# EAGLE library part HCNR200 (library HCNR200)
AVAGO TECHNOLOGIES - HCNR200 The HCNR200/201high?linearity analog optocoupler consists of a high?performance AlGaAs LED that illuminates two closely matched photodiodes. The input photodiode can be used to monitor, and therefore stabilize, the light output of the LED. As a result, the non?linearity and drift characteristics of the LED can be virtually eliminated. The output photodiode produces a photocurrent that is linearly related to the light output of the LED. The close matching of the photo?diodes and advanced design of the package ensure the high linearity and stable gain characteristics of the optocoupler.
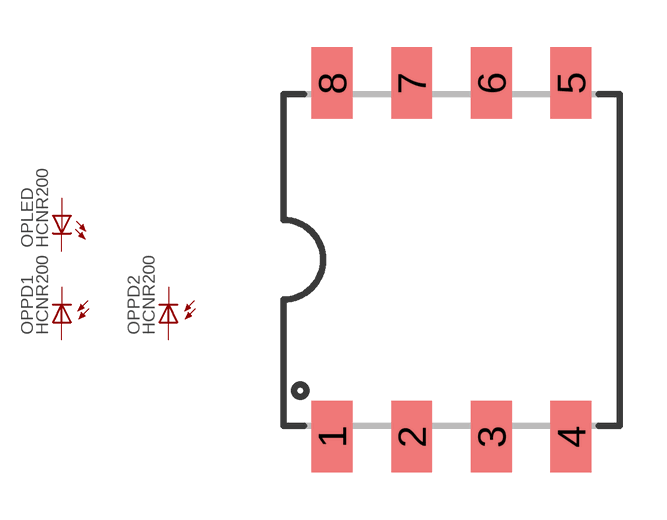
[diagram p0: symbol with the pads of DIP8; footprint DIP8]

Designator prefix OP; gates LED=LED PD1=OED PD2=OED NC$1=NC NC$2=NC

## HCNR200-300  [DIP8]
1  LED:C  pas
2  LED:A  pas
3  PD1:C  pas
4  PD1:A  pas
5  PD2:A  pas
6  PD2:C  pas
7  NC$1:NC  nc
8  NC$2:NC  nc

## Footprint DIP8 (pad centres in mm)
SMD DIL08 dual in line package'
smd 1.3 x 2.29: 1 -3.81,-5.639; 2 -1.27,-5.639; 3 1.27,-5.639; 4 3.81,-5.639; 5 3.81,5.639; 6 1.27,5.639; 7 -1.27,5.639; 8 -3.81,5.639